# Altium schematic symbol library Schlib1.SchLib: 4 symbols
Pins are listed as number, name and electrical type; pins without a type are passive.

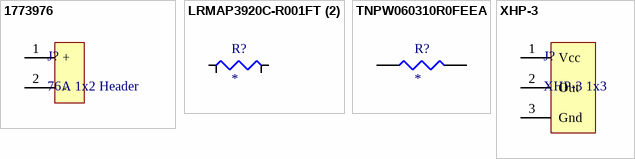
[diagram p0: symbols 1773976 to XHP-3]

## 1773976
designator J?, comment 76A 1x2 Header
Conn PC Board Terminal Block 2 POS 10.16mm RA Through Hole 76A Cardboard; Manufacturer: Phoenix Contact; Manufacturer Part Number: 1773976; Approvals: CB, UL, VDE, cUL; Current: 60A; Number of Circuits: 2; Number of Levels: 1; Voltage: 600V; Voltage Rating: 1kV; Voltage Rating (DC): 690V; Wire/Cable Gauge: 6AWG; Wire Gauge (Max): 20AWG; Supplier: RS; Supplier Part Number: 2482380; RoHS: Compliant; Category: Terminal Blocks; Stock: 50; Ambient Temperature Range High: 100°C; China RoHS: Compliant; Color: Green; Contact Material: Nickel, Tin; Current Rating: 76A; Height: 29.5mm; Housing Color: Green; Housing Material: Nylon; Lead Free: Lead Free; Lead Pitch: 10.16mm; Lifecycle Status: Production; Max Current Rating: 76A; Max Operating Temperature: 100°C; Min Operating Temperature: -40°C; Mounting Technology: Screw; Number of Contacts: 2; Pins: 2; Number of Poles: 2; Number of Positions: 2; Number of Positions Per Level: 2; Number of Rows: 1; Orientation: Right Angle; Packaging: Bulk; Pitch: 10.16mm; REACH SVHC: Yes; Termination: Screw; Voltage Rating (AC): 1kV; Weight: 15.331989g; Width: 34.3mm; Wire Gauge (Min): 20AWG; ComponentLink1URL: https://datasheet.octopart.com:443/1773976-Phoenix-Contact-datasheet-181079788.pdf?src-supplier=IHS; ComponentLink1Description: https://datasheet.octopart.com:443/1773976-Phoenix-Contact-datasheet-181079788.pdf?src-supplier=IHS; ComponentLink2URL: https://datasheet.octopart.com:443/1773976-Phoenix-Contact-datasheet-86450949.pdf?src-supplier=Farnell; ComponentLink2Description: https://datasheet.octopart.com:443/1773976-Phoenix-Contact-datasheet-86450949.pdf?src-supplier=Farnell; ComponentLink3URL: https://datasheet.octopart.com:443/MKDSP-10N/2-10%2C16-Phoenix-Contact-datasheet-8611737.pdf?src-supplier=element14+APAC; ComponentLink3Description: https://datasheet.octopart.com:443/MKDSP-10N/2-10%2C16-Phoenix-Contact-datasheet-8611737.pdf?src-supplier=element14+APAC; ComponentLink4URL: https://datasheet.octopart.com:443/1773976-Phoenix-Contact-datasheet-169855936.pdf?src-supplier=Master+Electronics; ComponentLink4Description: https://datasheet.octopart.com:443/1773976-Phoenix-Contact-datasheet-169855936.pdf?src-supplier=Master+Electronics; ComponentLink5URL: https://datasheet.octopart.com:443/1773976-Phoenix-Contact-datasheet-62122673.pdf?src-supplier=Master+Electronics; ComponentLink5Description: https://datasheet.octopart.com:443/1773976-Phoenix-Contact-datasheet-62122673.pdf?src-supplier=Master+Electronics; ComponentLink6URL: https://datasheet.octopart.com:443/1773976-Phoenix-Contact-datasheet-154780030.pdf?src-supplier=Electro+Sonic; ComponentLink6Description: https://datasheet.octopart.com:443/1773976-Phoenix-Contact-datasheet-154780030.pdf?src-supplier=Electro+Sonic; ComponentLink7URL: https://datasheet.octopart.com:443/1773976-Phoenix-Contact-datasheet-9630229.pdf?src-supplier=TodayComponents; ComponentLink7Description: https://datasheet.octopart.com:443/1773976-Phoenix-Contact-datasheet-9630229.pdf?src-supplier=TodayComponents; ComponentLink8URL: https://datasheet.octopart.com:443/1773976-Phoenix-Contact-datasheet-177331518.pdf?src-supplier=Burklin+Elektronik; ComponentLink8Description: https://datasheet.octopart.com:443/1773976-Phoenix-Contact-datasheet-177331518.pdf?src-supplier=Burklin+Elektronik; ComponentLink9URL: https://datasheet.octopart.com:443/1773976-Phoenix-Contact-datasheet-62053912.pdf?src-supplier=TME; ComponentLink9Description: https://datasheet.octopart.com:443/1773976-Phoenix-Contact-datasheet-62053912.pdf?src-supplier=TME; ComponentLink10URL: https://datasheet.octopart.com:443/1773976-Phoenix-Contact-datasheet-33478615.pdf?src-supplier=MRO+Stop; ComponentLink10Description: https://datasheet.octopart.com:443/1773976-Phoenix-Contact-datasheet-33478615.pdf?src-supplier=MRO+Stop
footprint 1773976 (Footprint not found)
pins: 1 +, 2 -

## LRMAP3920C-R001FT (2)
designator R?
Fixed Resistor, Metal Strip, 5W, 0.001ohm, 1% +/-Tol, 50ppm/Cel, Surface Mount, 3920; Manufacturer: Welwyn; Manufacturer Part Number: LRMAP3920C-R001FT; Value: 1mΩ; Temperature Coefficient: 50ppm/°C; Supplier: Farnell; Supplier Part Number: 4430410; RoHS: Compliant; Category: Chip SMD Resistors; Stock: 52875; Case Code (Imperial): 3921; Case Code (Metric): 1052; Composition: Metal Alloy; Height: 1.36mm; Lifecycle Status: Production; Max Operating Temperature: 170°C; Min Operating Temperature: -55°C; Mounting Technology: Surface Mount; Number of Terminals: 2; Packaging: Cut Tape; Power Dissipation: 5W; Power Rating: 5W; REACH SVHC: Yes; Tolerance: 1%; Width: 5.2mm; ComponentLink1URL: https://datasheet.octopart.com:443/LRMAP3920C-R001FT-TT-Electronics-datasheet-182172293.pdf?src-supplier=IHS; ComponentLink1Description: https://datasheet.octopart.com:443/LRMAP3920C-R001FT-TT-Electronics-datasheet-182172293.pdf?src-supplier=IHS; ComponentLink2URL: https://datasheet.octopart.com:443/LRMAP3920C-R001FT-Welwyn-datasheet-86812730.pdf?src-supplier=Newark; ComponentLink2Description: https://datasheet.octopart.com:443/LRMAP3920C-R001FT-Welwyn-datasheet-86812730.pdf?src-supplier=Newark; ComponentLink3URL: https://datasheet.octopart.com:443/LRMAP3920C-R001FT-Welwyn-datasheet-49692119.pdf?src-supplier=Newark; ComponentLink3Description: https://datasheet.octopart.com:443/LRMAP3920C-R001FT-Welwyn-datasheet-49692119.pdf?src-supplier=Newark; ComponentLink4URL: https://datasheet.octopart.com:443/LRMAP3920C-R001FT-TT-Electronics-datasheet-182915716.pdf?src-supplier=Electro+Sonic; ComponentLink4Description: https://datasheet.octopart.com:443/LRMAP3920C-R001FT-TT-Electronics-datasheet-182915716.pdf?src-supplier=Electro+Sonic; ComponentLink5URL: https://datasheet.octopart.com:443/LRMAP3920C-R001FT-Welwyn-datasheet-58102391.pdf?src-supplier=element14+APAC; ComponentLink5Description: https://datasheet.octopart.com:443/LRMAP3920C-R001FT-Welwyn-datasheet-58102391.pdf?src-supplier=element14+APAC; ComponentLink6URL: https://datasheet.octopart.com:443/LRMAP3920C-R001FT-Welwyn-datasheet-164894312.pdf?src-supplier=Burklin+Elektronik; ComponentLink6Description: https://datasheet.octopart.com:443/LRMAP3920C-R001FT-Welwyn-datasheet-164894312.pdf?src-supplier=Burklin+Elektronik
pins: 1, 2, 3 S+, 4 S-

## TNPW060310R0FEEA
designator R?
Fixed Resistor, Thin Film, 0.1W, 10ohm, 75V, 1% +/-Tol, 25ppm/Cel, Surface Mount, 0603; Manufacturer: Vishay; Manufacturer Part Number: TNPW060310R0FEEA; Power Dissipation: 100mW; Value: 10Ω; Temperature Coefficient: 25ppm/°C; Supplier: Mouser; Supplier Part Number: 71-TNPW060310R0FEEA; RoHS: Compliant; Category: Chip SMD Resistors; Stock: 10888; Pricing: 1=0,21, 10=0,154, 50=0,121, 100=0,109, 1000=0,074, 10000=0,055 (USD); Case/Package: 0603; China RoHS: Compliant; Composition: Thin Film; Contact Plating: Tin; Height: 450µm; Lifecycle Status: Production; Max Operating Temperature: 125°C; Min Operating Temperature: -55°C; Mounting Technology: Surface Mount; Number of Terminals: 2; Packaging: Tape & Reel; Power Rating: 100mW; Radiation Hardening: No; REACH SVHC: Yes; Tolerance: 1%; Width: 850µm; Working Voltage: 75V; ComponentLink1URL: https://datasheet.octopart.com:443/TNPW060310R0FEEA-Vishay-datasheet-182188515.pdf?src-supplier=IHS; ComponentLink1Description: https://datasheet.octopart.com:443/TNPW060310R0FEEA-Vishay-datasheet-182188515.pdf?src-supplier=IHS; ComponentLink2URL: https://datasheet.octopart.com:443/TNPW060310R0FEEA-Vishay-Dale-datasheet-182026744.pdf?src-supplier=IHS; ComponentLink2Description: https://datasheet.octopart.com:443/TNPW060310R0FEEA-Vishay-Dale-datasheet-182026744.pdf?src-supplier=IHS; ComponentLink3URL: https://datasheet.octopart.com/TNPW060310R0FEEA-Vishay-datasheet-13498837.pdf; ComponentLink3Description: https://datasheet.octopart.com/TNPW060310R0FEEA-Vishay-datasheet-13498837.pdf; ComponentLink4URL: https://datasheet.octopart.com/TNPW060310R0FEEA-Vishay-datasheet-13414878.pdf; ComponentLink4Description: https://datasheet.octopart.com/TNPW060310R0FEEA-Vishay-datasheet-13414878.pdf; ComponentLink5URL: https://datasheet.octopart.com/TNPW060310R0FEEA-Vishay-datasheet-13295955.pdf; ComponentLink5Description: https://datasheet.octopart.com/TNPW060310R0FEEA-Vishay-datasheet-13295955.pdf; ComponentLink6URL: https://datasheet.octopart.com/TNPW060310R0FEEA-Vishay-datasheet-13196373.pdf; ComponentLink6Description: https://datasheet.octopart.com/TNPW060310R0FEEA-Vishay-datasheet-13196373.pdf; ComponentLink7URL: https://datasheet.octopart.com/TNPW060310R0FEEA-Vishay-datasheet-13143890.pdf; ComponentLink7Description: https://datasheet.octopart.com/TNPW060310R0FEEA-Vishay-datasheet-13143890.pdf; ComponentLink8URL: https://datasheet.octopart.com/TNPW060310R0FEEA-Vishay-datasheet-13081780.pdf; ComponentLink8Description: https://datasheet.octopart.com/TNPW060310R0FEEA-Vishay-datasheet-13081780.pdf; ComponentLink9URL: https://datasheet.octopart.com/TNPW060310R0FEEA-Vishay-datasheet-13052401.pdf; ComponentLink9Description: https://datasheet.octopart.com/TNPW060310R0FEEA-Vishay-datasheet-13052401.pdf; ComponentLink10URL: https://datasheet.octopart.com/TNPW060310R0FEEA-Vishay-datasheet-13034137.pdf; ComponentLink10Description: https://datasheet.octopart.com/TNPW060310R0FEEA-Vishay-datasheet-13034137.pdf; ComponentLink11URL: https://datasheet.octopart.com/TNPW060310R0FEEA-Vishay-datasheet-12585086.pdf; ComponentLink11Description: https://datasheet.octopart.com/TNPW060310R0FEEA-Vishay-datasheet-12585086.pdf; ComponentLink12URL: https://datasheet.octopart.com/TNPW060310R0FEEA-Vishay-datasheet-12543131.pdf; ComponentLink12Description: https://datasheet.octopart.com/TNPW060310R0FEEA-Vishay-datasheet-12543131.pdf; ComponentLink13URL: https://datasheet.octopart.com/TNPW060310R0FEEA-Vishay-datasheet-12532511.pdf; ComponentLink13Description: https://datasheet.octopart.com/TNPW060310R0FEEA-Vishay-datasheet-12532511.pdf; ComponentLink14URL: https://datasheet.octopart.com/TNPW060310R0FEEA-Vishay-datasheet-12519971.pdf; ComponentLink14Description: https://datasheet.octopart.com/TNPW060310R0FEEA-Vishay-datasheet-12519971.pdf; ComponentLink15URL: https://datasheet.octopart.com/TNPW060310R0FEEA-Vishay-datasheet-12509767.pdf; ComponentLink15Description: https://datasheet.octopart.com/TNPW060310R0FEEA-Vishay-datasheet-12509767.pdf; ComponentLink16URL: https://datasheet.octopart.com/TNPW060310R0FEEA-Vishay-datasheet-12365287.pdf; ComponentLink16Description: https://datasheet.octopart.com/TNPW060310R0FEEA-Vishay-datasheet-12365287.pdf; ComponentLink17URL: https://datasheet.octopart.com/TNPW060310R0FEEA-Vishay-datasheet-10854096.pdf; ComponentLink17Description: https://datasheet.octopart.com/TNPW060310R0FEEA-Vishay-datasheet-10854096.pdf; ComponentLink18URL: https://datasheet.octopart.com/TNPW060310R0FEEA-Vishay-datasheet-10678752.pdf; ComponentLink18Description: https://datasheet.octopart.com/TNPW060310R0FEEA-Vishay-datasheet-10678752.pdf; ComponentLink19URL: https://datasheet.octopart.com/TNPW060310R0FEEA-Vishay-datasheet-10283461.pdf; ComponentLink19Description: https://datasheet.octopart.com/TNPW060310R0FEEA-Vishay-datasheet-10283461.pdf; ComponentLink20URL: https://datasheet.octopart.com/TNPW060310R0FEEA-Vishay-datasheet-10185418.pdf; ComponentLink20Description: https://datasheet.octopart.com/TNPW060310R0FEEA-Vishay-datasheet-10185418.pdf; ComponentLink21URL: https://datasheet.octopart.com/TNPW060310R0FEEA-Vishay-datasheet-10055244.pdf; ComponentLink21Description: https://datasheet.octopart.com/TNPW060310R0FEEA-Vishay-datasheet-10055244.pdf; ComponentLink22URL: http://sigma.octopart.com:80/rohs_statement/Vishay-company-15.pdf?src-supplier=Compliance+Statements; ComponentLink22Description: http://sigma.octopart.com:80/rohs_statement/Vishay-company-15.pdf?src-supplier=Compliance+Statements
pins: 1, 2

## XHP-3
designator J?, comment XHP-3 1x3
Connector Housing, XH Series, 3 Positions, 2.50mm, 250V, 30-22 AWG, Crimp, In-Line, Natural; Manufacturer: JST; Connector Type: Receptacle, Socket; Contact Resistance: 10mΩ; Current Rating: 3A; Gender: Receptacle; Insulation Resistance: 1GΩ; Number of Contacts: 3; Pitch: 2.5mm; Wire/Cable Gauge: 22AWG; Wire Gauge (Min): 30AWG; Supplier: RS; Supplier Part Number: 8201614; Manufacturer Part Number: XHP-3; RoHS: Compliant; Category: Card Edge Connectors; Stock: 20335; China RoHS: Compliant; Color: Natural; Contact Gender: Female; Contact Material: Bronze, Tin; Depth: 7.75mm; Height: 6.35mm; Housing Color: White; Housing Material: Polyamide; Lead Free: Lead Free; Length: 9.8mm; Lifecycle Status: Production; Max Current Rating: 3A; Max Operating Temperature: 85°C; Max Voltage Rating (AC): 250V; Max Voltage Rating (DC): 250V; Min Operating Temperature: -25°C; Mounting Technology: Cable, Free Hanging; Pins: 3; Number of Positions: 3; Number of Rows: 1; Orientation: Straight; REACH SVHC: No; Termination: Crimp; Voltage Rating: 250V; Voltage Rating (AC): 250V; Weight: 28.349523g; Width: 5.7mm; Wire Gauge (Max): 22AWG; ComponentLink1URL: https://datasheet.octopart.com:443/XHP-3-JST-datasheet-12510042.pdf?src-supplier=Upverter; ComponentLink1Description: https://datasheet.octopart.com:443/XHP-3-JST-datasheet-12510042.pdf?src-supplier=Upverter; ComponentLink2URL: https://datasheet.octopart.com:443/XHP-3-JST-datasheet-8325564.pdf?src-supplier=Burklin+Elektronik; ComponentLink2Description: https://datasheet.octopart.com:443/XHP-3-JST-datasheet-8325564.pdf?src-supplier=Burklin+Elektronik; ComponentLink3URL: https://datasheet.octopart.com:443/XHP-3-JST-datasheet-180492027.pdf?src-supplier=IHS; ComponentLink3Description: https://datasheet.octopart.com:443/XHP-3-JST-datasheet-180492027.pdf?src-supplier=IHS; ComponentLink4URL: https://datasheet.octopart.com:443/XHP-3-JST-datasheet-62330224.pdf?src-supplier=element14+APAC; ComponentLink4Description: https://datasheet.octopart.com:443/XHP-3-JST-datasheet-62330224.pdf?src-supplier=element14+APAC; ComponentLink5URL: https://datasheet.octopart.com:443/XHP-3-JST-datasheet-13502449.pdf?src-supplier=element14+APAC; ComponentLink5Description: https://datasheet.octopart.com:443/XHP-3-JST-datasheet-13502449.pdf?src-supplier=element14+APAC; ComponentLink6URL: https://datasheet.octopart.com:443/XHP-3-JST-datasheet-10026044.pdf?src-supplier=TME; ComponentLink6Description: https://datasheet.octopart.com:443/XHP-3-JST-datasheet-10026044.pdf?src-supplier=TME; ComponentLink7URL: https://datasheet.octopart.com:443/XHP-3-JST-datasheet-63094.pdf?src-supplier=Future+Electronics; ComponentLink7Description: https://datasheet.octopart.com:443/XHP-3-JST-datasheet-63094.pdf?src-supplier=Future+Electronics; ComponentLink8URL: https://datasheet.octopart.com:443/XHP-3-JST-datasheet-140264791.pdf?src-supplier=LKR; ComponentLink8Description: https://datasheet.octopart.com:443/XHP-3-JST-datasheet-140264791.pdf?src-supplier=LKR; ComponentLink9URL: https://datasheet.octopart.com:443/XHP-3-JST-datasheet-41261050.pdf?src-supplier=Newark; ComponentLink9Description: https://datasheet.octopart.com:443/XHP-3-JST-datasheet-41261050.pdf?src-supplier=Newark; ComponentLink10URL: https://datasheet.octopart.com:443/XHP-3-JST-datasheet-157850277.pdf?src-supplier=Amar+Radio+Corporation; ComponentLink10Description: https://datasheet.octopart.com:443/XHP-3-JST-datasheet-157850277.pdf?src-supplier=Amar+Radio+Corporation
pins: 1 Vcc, 2 Out, 3 Gnd